# EAGLE library part HEADER_8P (library led_oscilloscope)
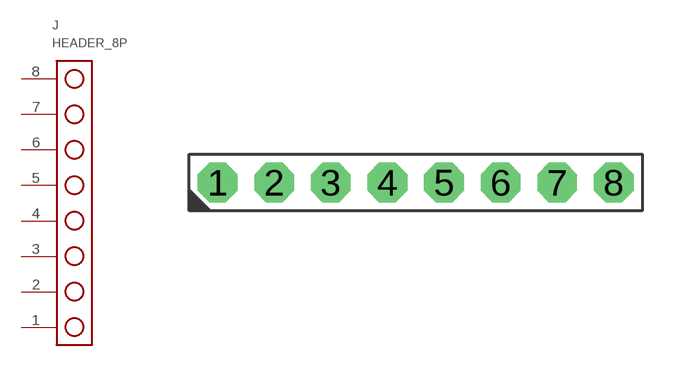
[diagram p3: symbol with the pads of HEADER_8P; footprint HEADER_8P]

Designator prefix J

## HEADER_8P  [HEADER_8P]
1  1
2  2
3  3
4  4
5  5
6  6
7  7
8  8

## Footprint HEADER_8P (pad centres in mm)
drill 1 pad 1.778 octagon: 1 -8.89,0; 2 -6.35,0; 3 -3.81,0; 4 -1.27,0; 5 1.27,0; 6 3.81,0; 7 6.35,0; 8 8.89,0